# EAGLE library part MAX4199 (library IC_Linear)
Precision Differential Amplifier Reference Datasheet <https://datasheets.maximintegrated.com/en/ds/MAX4198-MAX4199.pdf>
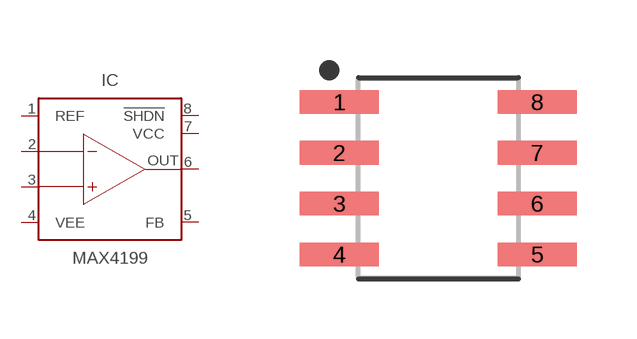
[diagram p17: symbol with the pads of SOIC127P600X175-8N; footprint SOIC127P600X175-8N]

Designator prefix IC

## MAX4199_SOIC (CATEGORY: Differential Amplifiers; DESCRIPTION: Differential Amplifiers Micropower, Single-Supply, Rail-to-Rail Precision Differential Amplifiers; MANUFACTURER: Analog Devices / Maxim Integrated; MPN: Generic; OPERATING_TEMP: -40°C ~ 85°C; PART_STATUS: Active; ROHS_COMPLIANT: ROHS3 Compliant; SERIES: MAX4199; SUB-CATEGORY: Amplifier ICs; TYPE: Differential Amplifiers; VALUE: MAX4199)  [SOIC127P600X175-8N]
1  REF  pas
2  -IN  in
3  +IN  in
4  VEE
5  FB  pas
6  OUT  out
7  VCC
8  !SHDN  pas

## Footprint SOIC127P600X175-8N (pad centres in mm)
8-SOIC, 1.27 mm pitch, 6.00 mm span, 4.90 X 3.90 X 1.75 mm body 8-pin SOIC package with 1.27 mm pitch, 6.00 mm span with body size 4.90 X 3.90 X 1.75 mm
smd 1.969 x 0.592: 1 -2.474,1.905; 2 -2.474,0.635; 3 -2.474,-0.635; 4 -2.474,-1.905; 5 2.474,-1.905; 6 2.474,-0.635; 7 2.474,0.635; 8 2.474,1.905